# Altium footprint library QFN35P500X500X60_HS-48L.PcbLib: 1 footprints
Each footprint in its own frame and in the unit in brackets; x right, y up, seen from the top. Pads: shape width x height; smd on the part's side, far side on the other; paste and mask are expansions set on the pad; w line width, h text height; cw(c..) or ccw(c..) is an arc to the next point about the centre after c.
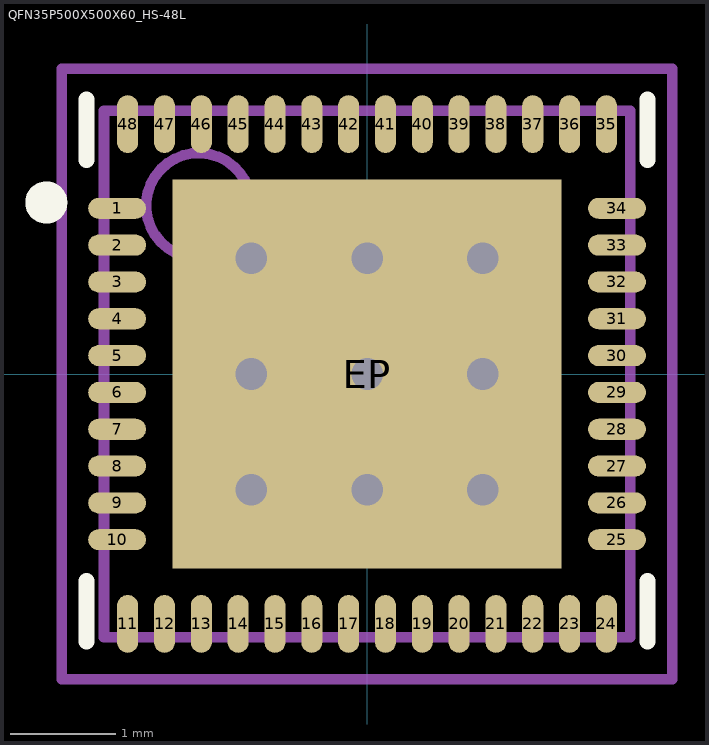
[diagram p0: the footprint, top view; thin cyan lines are the x and y axes]

## QFN35P500X500X60_HS-48L [mm] "QFN, 48-Leads, Body 5.00x5.00mm, Pitch 0.35mm, Thermal Pad 3.70x3.70mm, IPC High Density"
height 0.6
pads (49):
  oval 0.55x0.2 smd: 1(-2.375,1.575) 2(-2.375,1.225) 3(-2.375,0.875) 4(-2.375,0.525) 5(-2.375,0.175) 6(-2.375,-0.175) 7(-2.375,-0.525) 8(-2.375,-0.875) 9(-2.375,-1.225) 10(-2.375,-1.575) 25(2.375,-1.575) 26(2.375,-1.225) 27(2.375,-0.875) 28(2.375,-0.525) 29(2.375,-0.175) 30(2.375,0.175) 31(2.375,0.525) 32(2.375,0.875) 33(2.375,1.225) 34(2.375,1.575)
  oval 0.2x0.55 smd: 11(-2.275,-2.375) 12(-1.925,-2.375) 13(-1.575,-2.375) 14(-1.225,-2.375) 15(-0.875,-2.375) 16(-0.525,-2.375) 17(-0.175,-2.375) 18(0.175,-2.375) 19(0.525,-2.375) 20(0.875,-2.375) 21(1.225,-2.375) 22(1.575,-2.375) 23(1.925,-2.375) 24(2.275,-2.375) 35(2.275,2.375) 36(1.925,2.375) 37(1.575,2.375) 38(1.225,2.375) 39(0.875,2.375) 40(0.525,2.375) 41(0.175,2.375) 42(-0.175,2.375) 43(-0.525,2.375) 44(-0.875,2.375) 45(-1.225,2.375) 46(-1.575,2.375) 47(-1.925,2.375) 48(-2.275,2.375)
  rect 3.7x3.7 smd: EP(0,0)
via -1.1,1.1 diameter 0.6 hole 0.3
via 0,1.1 diameter 0.6 hole 0.3
via 1.1,1.1 diameter 0.6 hole 0.3
via -1.1,0 diameter 0.6 hole 0.3
via 0,0 diameter 0.6 hole 0.3
via 1.1,0 diameter 0.6 hole 0.3
via -1.1,-1.1 diameter 0.6 hole 0.3
via 0,-1.1 diameter 0.6 hole 0.3
via 1.1,-1.1 diameter 0.6 hole 0.3
Top Overlay:
  circle w0.2: c-3.048,1.63 r0.1
  lines w0.152: -2.667,-2.54 -2.667,-1.965 ; -2.667,2.032 -2.667,2.607 ; 2.667,-2.54 2.667,-1.965 ; 2.667,2.032 2.667,2.607
Mechanical 13:
  circle w0.1: c-1.6,1.6 r0.5
  lines w0.1: -2.5,-2.5 -2.5,2.5 2.5,2.5 2.5,-2.5 -2.5,-2.5
Mechanical 15:
  lines w0.1: -0.5,0 0.5,0 ; 0,-0.5 0,0.5 ; -2.9,-2.9 -2.9,2.9 2.9,2.9 2.9,-2.9 -2.9,-2.9
3D body "QFN35P500X500X60_HS-49L.step": height 0.6, standoff 0, extent -2.55,-2.55 2.55,2.55